# EAGLE library part AT24C04D (library AT24C04D)
EEPROM - I2C Compatible (2-wire) Serial Datasheet: http://www.atmel.com/Images/Atmel-8896-SEEPROM-AT24C04D-Datasheet.pdf
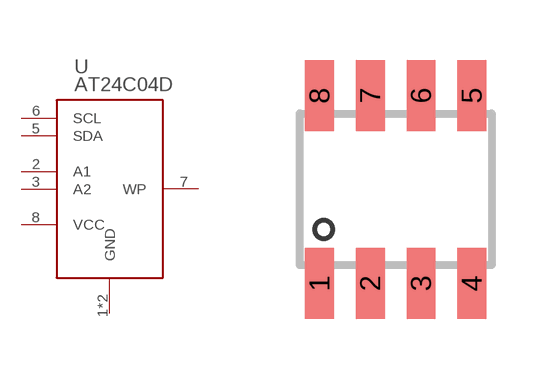
[diagram p0: symbol with the pads of SO08; footprint SO08]

Designator prefix U

## AT24C04D (SIZE: 4-Kbit (512 x 8))  [SO08]
1  GND
2  A1
3  A2
4  GND
5  SDA
6  SCL
7  WP
8  VCC

## Footprint SO08 (pad centres in mm)
8 Lead SOIC
smd 0.72 x 1.78: 1 -1.905,-2.35; 2 -0.635,-2.35; 3 0.635,-2.35; 4 1.905,-2.35; 5 1.905,2.35; 6 0.635,2.35; 7 -0.635,2.35; 8 -1.905,2.35